# Altium footprint library PcbLib1.PcbLib: 39 footprints (part 2 of 3)
Each footprint in its own frame and in the unit in brackets; x right, y up, seen from the top. Pads: shape width x height; smd on the part's side, far side on the other; paste and mask are expansions set on the pad; w line width, h text height; cw(c..) or ccw(c..) is an arc to the next point about the centre after c.
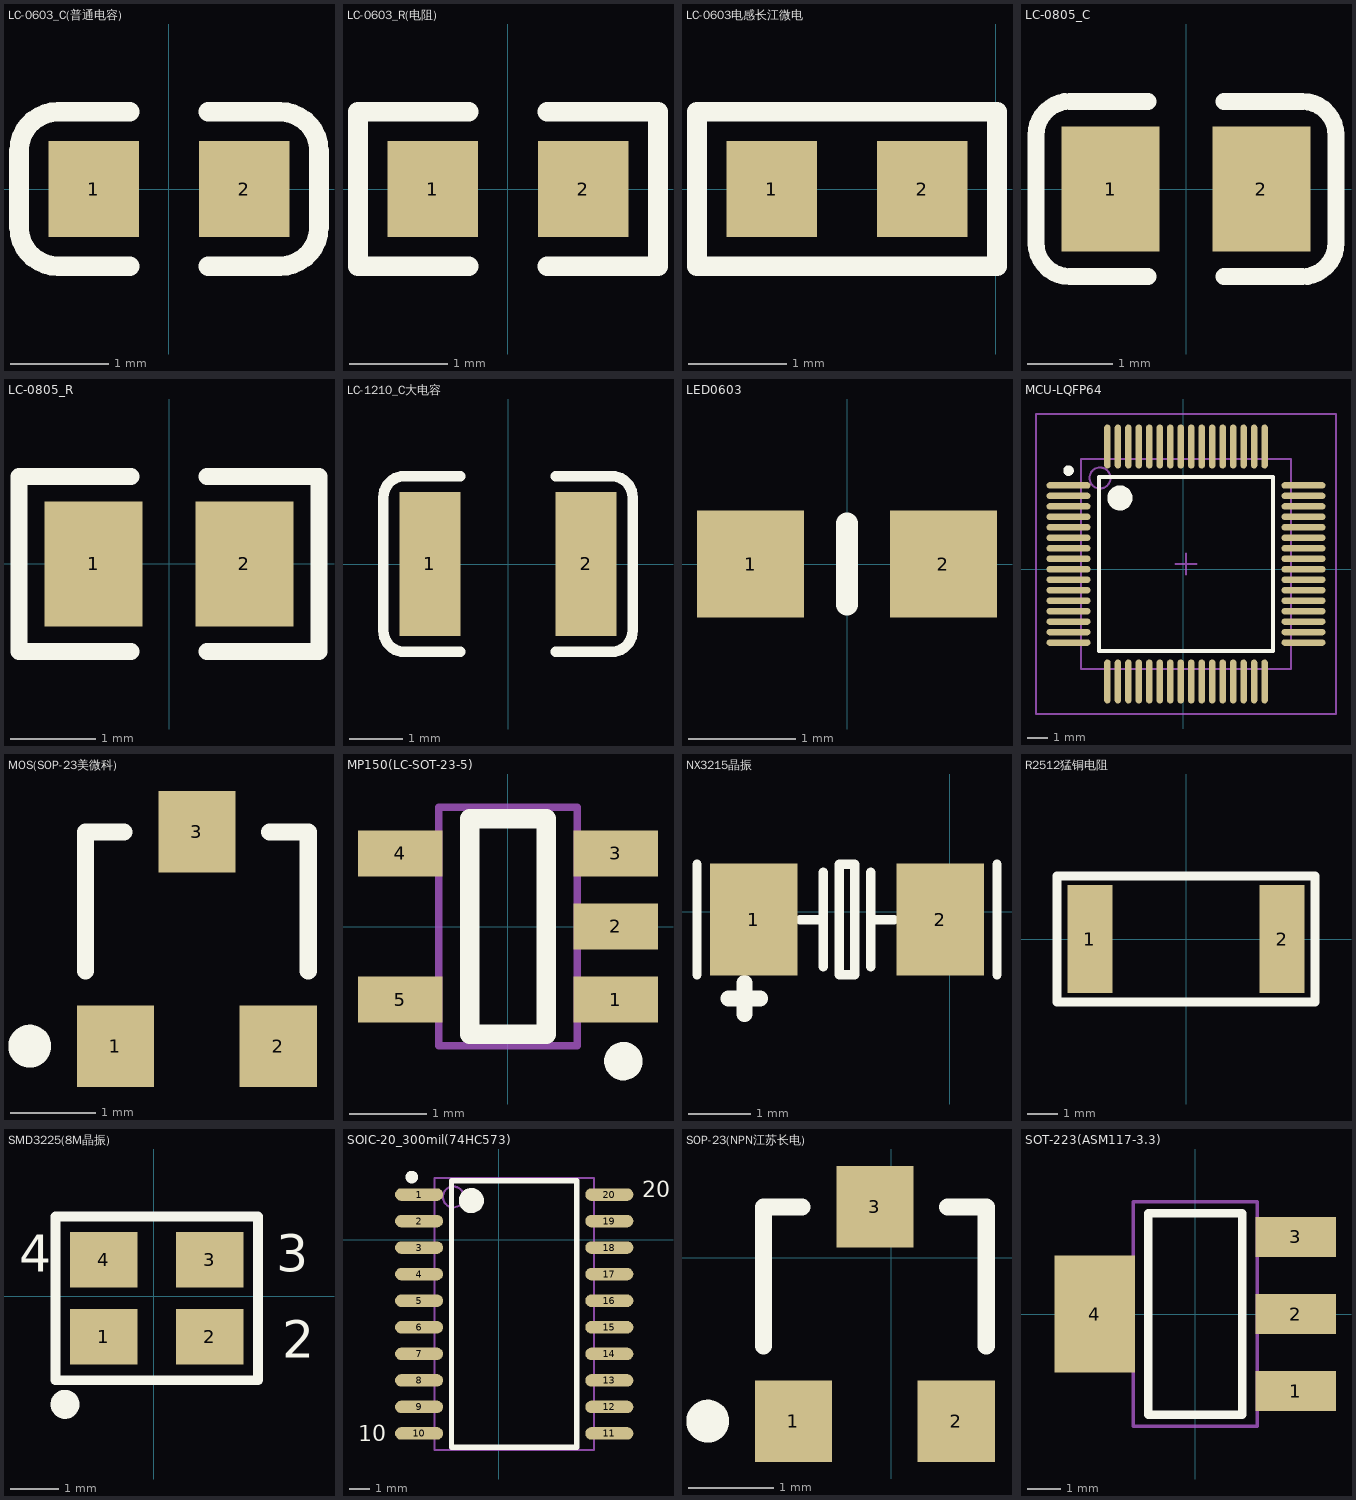
[diagram p1: the footprints below, top view; thin cyan lines are the x and y axes]

## LC-0603_C(普通电容) [mm]
height 2.65
pads (2):
  rect 0.93x0.98 smd: 1(-0.77,0) 2(0.77,0)
Top Overlay:
  lines w0.2: -0.4,-0.79 -1.135,-0.79 cw(c-1.135,-0.39) -1.535,-0.39 -1.535,0.39 cw(c-1.135,0.39) -1.135,0.79 -0.4,0.79 ; 0.4,-0.79 1.135,-0.79 ccw(c1.135,-0.39) 1.535,-0.39 1.535,0.39 ccw(c1.135,0.39) 1.135,0.79 0.4,0.79
3D body "User Library-0603 SMD Capacitor.STEP": height 0.3, standoff 0, extent -0.8,-0.4 0.8,0.4

## LC-0603_R(电阻) [mm]
height 2.65
pads (2):
  rect 0.93x0.98 smd: 1(-0.77,0) 2(0.77,0)
Top Overlay:
  lines w0.2: -0.4,-0.79 -1.535,-0.79 -1.535,0.79 -0.4,0.79 ; 0.4,-0.79 1.535,-0.79 1.535,0.79 0.4,0.79
3D body "User Library-RES_1609-0603.STEP": height 0.56, standoff 0, extent -0.85,-0.4 0.85,0.4

## LC-0603电感长江微电 [mm]
pads (2):
  rect 0.93x0.98 smd: 1(-2.294,0) 2(-0.754,0)
Top Overlay:
  lines w0.2: -3.059,-0.79 0.011,-0.79 0.011,0.79 -3.059,0.79 -3.059,-0.79
3D body "L0603.STEP": height 0.46, standoff -0.01, extent -2.349,-0.412 -0.699,0.413

## LC-0805_C [mm]
height 2.65
pads (2):
  rect 1.16x1.47 smd: 1(-0.89,0) 2(0.89,0)
Top Overlay:
  lines w0.2: -0.45,-1.035 -1.37,-1.035 cw(c-1.37,-0.635) -1.77,-0.635 -1.77,0.635 cw(c-1.37,0.635) -1.37,1.035 -0.45,1.035 ; 0.45,-1.035 1.37,-1.035 ccw(c1.37,-0.635) 1.77,-0.635 1.77,0.635 ccw(c1.37,0.635) 1.37,1.035 0.45,1.035
3D body "User Library-0805 SMD Capacitor.STEP": height 0.77, standoff -0.01, extent -0.999,-0.625 1.001,0.625

## LC-0805_R [mm]
height 2.65
pads (2):
  rect 1.16x1.47 smd: 1(-0.89,0) 2(0.89,0)
Top Overlay:
  lines w0.2: -0.45,-1.035 -1.77,-1.035 -1.77,1.035 -0.45,1.035 ; 0.45,-1.035 1.77,-1.035 1.77,1.035 0.45,1.035
3D body "User Library-R_0805.STEP": height 0.49, standoff -0.01, extent -0.997,-0.625 1.003,0.625

## LC-1210_C大电容 [mm]
pads (2):
  rect 1.16x2.72 smd: 1(-1.475,0) 2(1.475,0)
Top Overlay:
  lines w0.2: -0.9,-1.66 -1.955,-1.66 cw(c-1.955,-1.26) -2.355,-1.26 -2.355,1.26 cw(c-1.955,1.26) -1.955,1.66 -0.9,1.66 ; 0.9,-1.66 1.955,-1.66 ccw(c1.955,-1.26) 2.355,-1.26 2.355,1.26 ccw(c1.955,1.26) 1.955,1.66 0.9,1.66
3D body "User Library-cap_1210_lowprofile.step": height 1.3, standoff 0, extent -1.6,-1.25 1.6,1.25

## LED0603 [mm]
pads (2):
  rect 1x1 smd: 1(-0.9,0) 2(0.9,0)
Top Overlay:
  lines w0.203: 0,-0.381 0,0.381

## MCU-LQFP64 [mm]
pads (64):
  oval 2.1x0.3 smd: 1(-5.473,4.004) 2(-5.473,3.504) 3(-5.473,3.004) 4(-5.473,2.504) 5(-5.473,2.004) 6(-5.473,1.504) 7(-5.473,1.004) 8(-5.473,0.504) 9(-5.473,0.004) 10(-5.473,-0.496) 11(-5.473,-0.996) 12(-5.473,-1.496) 13(-5.473,-1.996) 14(-5.473,-2.496) 15(-5.473,-2.996) 16(-5.473,-3.496) 33(5.727,-3.496) 34(5.727,-2.996) 35(5.727,-2.496) 36(5.727,-1.996) 37(5.727,-1.496) 38(5.727,-0.996) 39(5.727,-0.496) 40(5.727,0.004) 41(5.727,0.504) 42(5.727,1.004) 43(5.727,1.504) 44(5.727,2.004) 45(5.727,2.504) 46(5.727,3.004) 47(5.727,3.504) 48(5.727,4.004)
  oval 0.3x2.1 smd: 17(-3.623,-5.346) 18(-3.123,-5.346) 19(-2.623,-5.346) 20(-2.123,-5.346) 21(-1.623,-5.346) 22(-1.123,-5.346) 23(-0.623,-5.346) 24(-0.123,-5.346) 25(0.377,-5.346) 26(0.877,-5.346) 27(1.377,-5.346) 28(1.877,-5.346) 29(2.377,-5.346) 30(2.877,-5.346) 31(3.377,-5.346) 32(3.877,-5.346) 49(3.877,5.854) 50(3.377,5.854) 51(2.877,5.854) 52(2.377,5.854) 53(1.877,5.854) 54(1.377,5.854) 55(0.877,5.854) 56(0.377,5.854) 57(-0.123,5.854) 58(-0.623,5.854) 59(-1.123,5.854) 60(-1.623,5.854) 61(-2.123,5.854) 62(-2.623,5.854) 63(-3.123,5.854) 64(-3.623,5.854)
Top Overlay:
  circle w0.25: c-5.473,4.704 r0.125
  circle w0.6: c-3.023,3.404 r0.3
  lines w0.2: -4.023,-3.896 -4.023,4.404 4.277,4.404 4.277,-3.896 -4.023,-3.896
Mechanical 13:
  circle w0.1: c-3.973,4.354 r0.5
  lines w0.1: -4.873,-4.746 -4.873,5.254 5.127,5.254 5.127,-4.746 -4.873,-4.746
Mechanical 15:
  lines w0.1: -0.373,0.254 0.627,0.254 ; 0.127,-0.246 0.127,0.754 ; -7.023,-6.896 -7.023,7.404 7.277,7.404 7.277,-6.896 -7.023,-6.896
3D body: height 1.6, standoff 0, extent -4.873,-4.746 5.127,5.254

## MOS(SOP-23美微科) [mm]
pads (3):
  rect 0.9x0.95 smd: 1(-410.972,-128.27) 2(-409.072,-128.27) 3(-410.022,-125.77)
Top Overlay:
  circle w0.25: c-411.972,-128.27 r0.125
  lines w0.2: -411.322,-127.395 -411.322,-125.77 -410.872,-125.77 ; -409.172,-125.77 -408.722,-125.77 -408.722,-127.395

## MP150(LC-SOT-23-5) [mm]
height 2.65
pads (5):
  rect 1.1x0.6 smd: 1(1.4,-0.95) 2(1.4,0) 3(1.4,0.95) 4(-1.4,0.95) 5(-1.4,-0.95)
Top Overlay:
  circle w0.25: c1.5,-1.75 r0.125
  lines w0.254: -0.5,-1.4 -0.5,1.4 0.5,1.4 0.5,-1.4 -0.5,-1.4
Mechanical 13:
  lines w0.1: -0.9,-1.55 0.9,-1.55 0.9,1.55 -0.9,1.55 -0.9,-1.55

## NX3215晶振 [mm]
pads (2):
  rect 1.4x1.8 smd: 1(-3.151,-0.127) 2(-0.151,-0.127)
Top Overlay:
  lines w0.152: -4.064,-1.016 -4.064,0.762 ; -2.413,-0.127 -2.032,-0.127 ; -2.032,-0.889 -2.032,0.635 ; -1.27,-0.889 -1.27,0.635 ; -1.27,-0.127 -0.889,-0.127 ; 0.762,-1.016 0.762,0.762 ; -1.778,-1.016 -1.524,-1.016 -1.524,0.762 -1.778,0.762 -1.778,-1.016
  lines w0.254: -3.556,-1.397 -3.048,-1.397 ; -3.302,-1.651 -3.302,-1.143

## R2512猛铜电阻 [mm]
height 2.65
pads (2):
  rect 1.5x3.6 smd: 1(-3.2,0) 2(3.2,0)
Top Overlay:
  lines w0.305: -4.3,-2.1 -4.3,2.1 4.3,2.1 4.3,-2.1 -4.3,-2.1

## SMD3225(8M晶振) [mm]
pads (4):
  rect 1.4x1.15 smd: 1(-1.039,-0.842) 2(1.161,-0.842) 3(1.161,0.758) 4(-1.039,0.758)
Top Overlay:
  circle w0.3: c-1.839,-2.242 r0.15
  lines w0.203: -2.039,-1.742 -2.039,1.658 2.161,1.658 2.161,-1.742 -2.039,-1.742
  text "4" at -2.794,0.508 h0.76
  text "3" at 2.54,0.508 h0.76
  text "2" at 2.667,-1.27 h0.76
3D body "User Library-3225-1.STEP": height 0.61, standoff 0, extent -1.539,-1.292 1.661,1.208

## SOIC-20_300mil(74HC573) [mm]
pads (20):
  oval 2.3x0.6 smd: 1(-3.81,2.159) 2(-3.81,0.889) 3(-3.81,-0.381) 4(-3.81,-1.651) 5(-3.81,-2.921) 6(-3.81,-4.191) 7(-3.81,-5.461) 8(-3.81,-6.731) 9(-3.81,-8.001) 10(-3.81,-9.271) 11(5.29,-9.271) 12(5.29,-8.001) 13(5.29,-6.731) 14(5.29,-5.461) 15(5.29,-4.191) 16(5.29,-2.921) 17(5.29,-1.651) 18(5.29,-0.381) 19(5.29,0.889) 20(5.29,2.159)
Top Overlay:
  circle w0.6: c-1.31,1.869 r0.3
  circle w0.3: c-4.16,2.994 r0.15
  lines w0.254: -2.26,-9.931 -2.26,2.819 3.74,2.819 3.74,-9.931 -2.26,-9.931
  text "10" at -6.731,-9.652 h0.76
  text "20" at 6.858,2.032 h0.76
Mechanical 13:
  circle w0.1: c-2.17,2.044 r0.5
  lines w0.1: -3.07,-10.056 -3.07,2.944 4.55,2.944 4.55,-10.056 -3.07,-10.056

## SOP-23(NPN江苏长电) [mm]
pads (3):
  rect 0.9x0.95 smd: 1(-1.143,-1.905) 2(0.757,-1.905) 3(-0.193,0.595)
Top Overlay:
  circle w0.25: c-2.143,-1.905 r0.125
  lines w0.2: -1.493,-1.03 -1.493,0.595 -1.043,0.595 ; 0.657,0.595 1.107,0.595 1.107,-1.03

## SOT-223(ASM117-3.3) [mm] "AMS1117"
pads (4):
  rect 2.4x1.2 smd: 1(3,-2.3) 2(3,0) 3(3,2.3)
  rect 2.4x3.5 smd: 4(-3,0)
Top Overlay:
  lines w0.254: -1.4,-3 1.4,-3 1.4,3 -1.4,3 -1.4,-3
Mechanical 13:
  lines w0.1: -1.85,-3.35 -1.85,3.35 1.85,3.35 1.85,-3.35 -1.85,-3.35
3D body "TO-223.STEP": height 1.64, standoff -0.04, extent -3.49,-3.242 3.49,3.243